# EAGLE library part VARITRONIX_VL-PS-COG-C144MVGD-04 (library Pygmy)
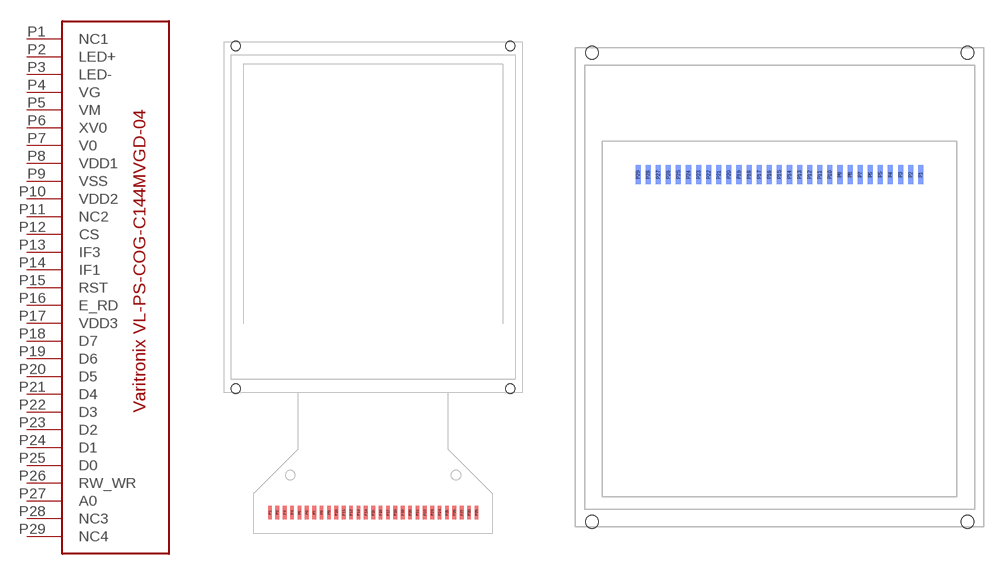
[diagram p39: symbol with the pads of VARITRONIX_C144MVGD; footprints VARITRONIX_C144MVGD, VARITRONIX_C144MVGD_FOLDED]

Designator prefix -

## VARITRONIX_VL-PS-COG-C144MVGD-04  [VARITRONIX_C144MVGD]
P1  NC1
P2  LED+
P3  LED-
P4  VG
P5  VM
P6  XV0
P7  V0
P8  VDD1
P9  VSS
P10  VDD2
P11  NC2
P12  CS
P13  IF3
P14  IF1
P15  RST
P16  E_RD
P17  VDD3
P18  D7
P19  D6
P20  D5
P21  D4
P22  D3
P23  D2
P24  D1
P25  D0
P26  RW_WR
P27  A0
P28  NC3
P29  NC4

## VARITRONIX_VL-PS-COG-C144MVGD-04FOLDED  [VARITRONIX_C144MVGD_FOLDED]
Pads as for VARITRONIX_C144MVGD

## Footprint VARITRONIX_C144MVGD (pad centres in mm)
smd 0.4 x 1.5: P1 5,-13.05; P2 5.8,-13.05; P3 6.6,-13.05; P4 7.4,-13.05; P5 8.2,-13.05; P6 9,-13.05; P7 9.8,-13.05; P8 10.6,-13.05; P9 11.4,-13.05; P10 12.2,-13.05; P11 13,-13.05; P12 13.8,-13.05; P13 14.6,-13.05; P14 15.4,-13.05; P15 16.2,-13.05; P16 17,-13.05; P17 17.8,-13.05; P18 18.6,-13.05; P19 19.4,-13.05; P20 20.2,-13.05; P21 21,-13.05; P22 21.8,-13.05; P23 22.6,-13.05; P24 23.4,-13.05; P25 24.2,-13.05; P26 25,-13.05; P27 25.8,-13.05; P28 26.6,-13.05; P29 27.4,-13.05
hole 1 at 31.06,0.4
hole 1 at 31.06,37.6
hole 1 at 1.3,37.6
hole 1 at 1.3,0.4

## Footprint VARITRONIX_C144MVGD_FOLDED (pad centres in mm)
smd 0.4 x 1.5 bottom: P1 27.35,-10.06; P2 26.55,-10.06; P3 25.75,-10.06; P4 24.95,-10.06; P5 24.15,-10.06; P6 23.35,-10.06; P7 22.55,-10.06; P8 21.75,-10.06; P9 20.95,-10.06; P10 20.15,-10.06; P11 19.35,-10.06; P12 18.55,-10.06; P13 17.75,-10.06; P14 16.95,-10.06; P15 16.15,-10.06; P16 15.35,-10.06; P17 14.55,-10.06; P18 13.75,-10.06; P19 12.95,-10.06; P20 12.15,-10.06; P21 11.35,-10.06; P22 10.55,-10.06; P23 9.75,-10.06; P24 8.95,-10.06; P25 8.15,-10.06; P26 7.35,-10.06; P27 6.55,-10.06; P28 5.75,-10.06; P29 4.95,-10.06
hole 1 at 1.29,-0.39
hole 1 at 1.29,-37.59
hole 1 at 31.05,-37.59
hole 1 at 31.05,-0.39